# EAGLE library part 16MBITFLASH-16BITS (library pixel)
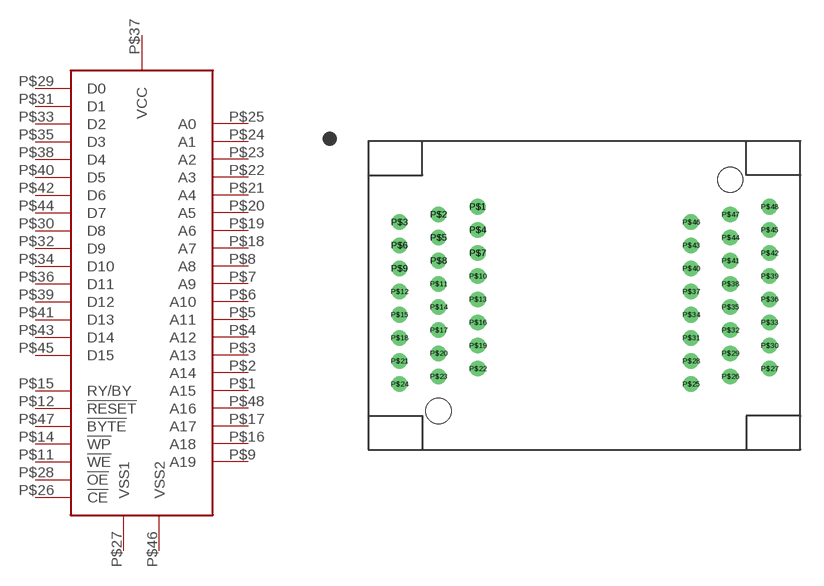
[diagram p0: symbol with the pads of TSOP48-ADAPTER; footprint TSOP48-ADAPTER]

Designator prefix -

## 16MBITFLASH-16BITS  [TSOP48-ADAPTER]
P$1  A15
P$2  A14
P$3  A13
P$4  A12
P$5  A11
P$6  A10
P$7  A9
P$8  A8
P$9  A19
P$11  !WE
P$12  !RESET
P$14  !WP
P$15  RY/BY
P$16  A18
P$17  A17
P$18  A7
P$19  A6
P$20  A5
P$21  A4
P$22  A3
P$23  A2
P$24  A1
P$25  A0
P$26  !CE
P$27  VSS1
P$28  !OE
P$29  D0
P$30  D8
P$31  D1
P$32  D9
P$33  D2
P$34  D10
P$35  D3
P$36  D11
P$37  VCC
P$38  D4
P$39  D12
P$40  D5
P$41  D13
P$42  D6
P$43  D14
P$44  D7
P$45  D15
P$46  VSS2
P$47  !BYTE
P$48  A16

## Footprint TSOP48-ADAPTER (pad centres in mm)
drill 0.5 pad 0.754: P$1 -6.915,5.75; P$2 -9.455,5.25; P$3 -11.995,4.75; P$4 -6.915,4.25; P$5 -9.455,3.75; P$6 -11.995,3.25; P$7 -6.915,2.75; P$8 -9.455,2.25; P$9 -11.995,1.75; P$10 -6.915,1.25; P$11 -9.455,0.75; P$12 -11.995,0.25; P$13 -6.915,-0.25; P$14 -9.455,-0.75; P$15 -11.995,-1.25; P$16 -6.915,-1.75; P$17 -9.455,-2.25; P$18 -11.995,-2.75; P$19 -6.915,-3.25; P$20 -9.455,-3.75; P$21 -11.995,-4.25; P$22 -6.915,-4.75; P$23 -9.455,-5.25; P$24 -11.995,-5.75; P$25 6.915,-5.75; P$26 9.455,-5.25; P$27 11.995,-4.75; P$28 6.915,-4.25; P$29 9.455,-3.75; P$30 11.995,-3.25; P$31 6.915,-2.75; P$32 9.455,-2.25; P$33 11.995,-1.75; P$34 6.915,-1.25; P$35 9.455,-0.75; P$36 11.995,-0.25; P$37 6.915,0.25; P$38 9.455,0.75; P$39 11.995,1.25; P$40 6.915,1.75; P$41 9.455,2.25; P$42 11.995,2.75; P$43 6.915,3.25; P$44 9.455,3.75; P$45 11.995,4.25; P$46 6.915,4.75; P$47 9.455,5.25; P$48 11.995,5.75
hole 1.65 at 9.455,7.5
hole 1.65 at -9.455,-7.5